# Altium integrated library Analog Devices Data Converters Digital-to-Analog Converters.IntLib: 2231 symbols (part 76 of 181)
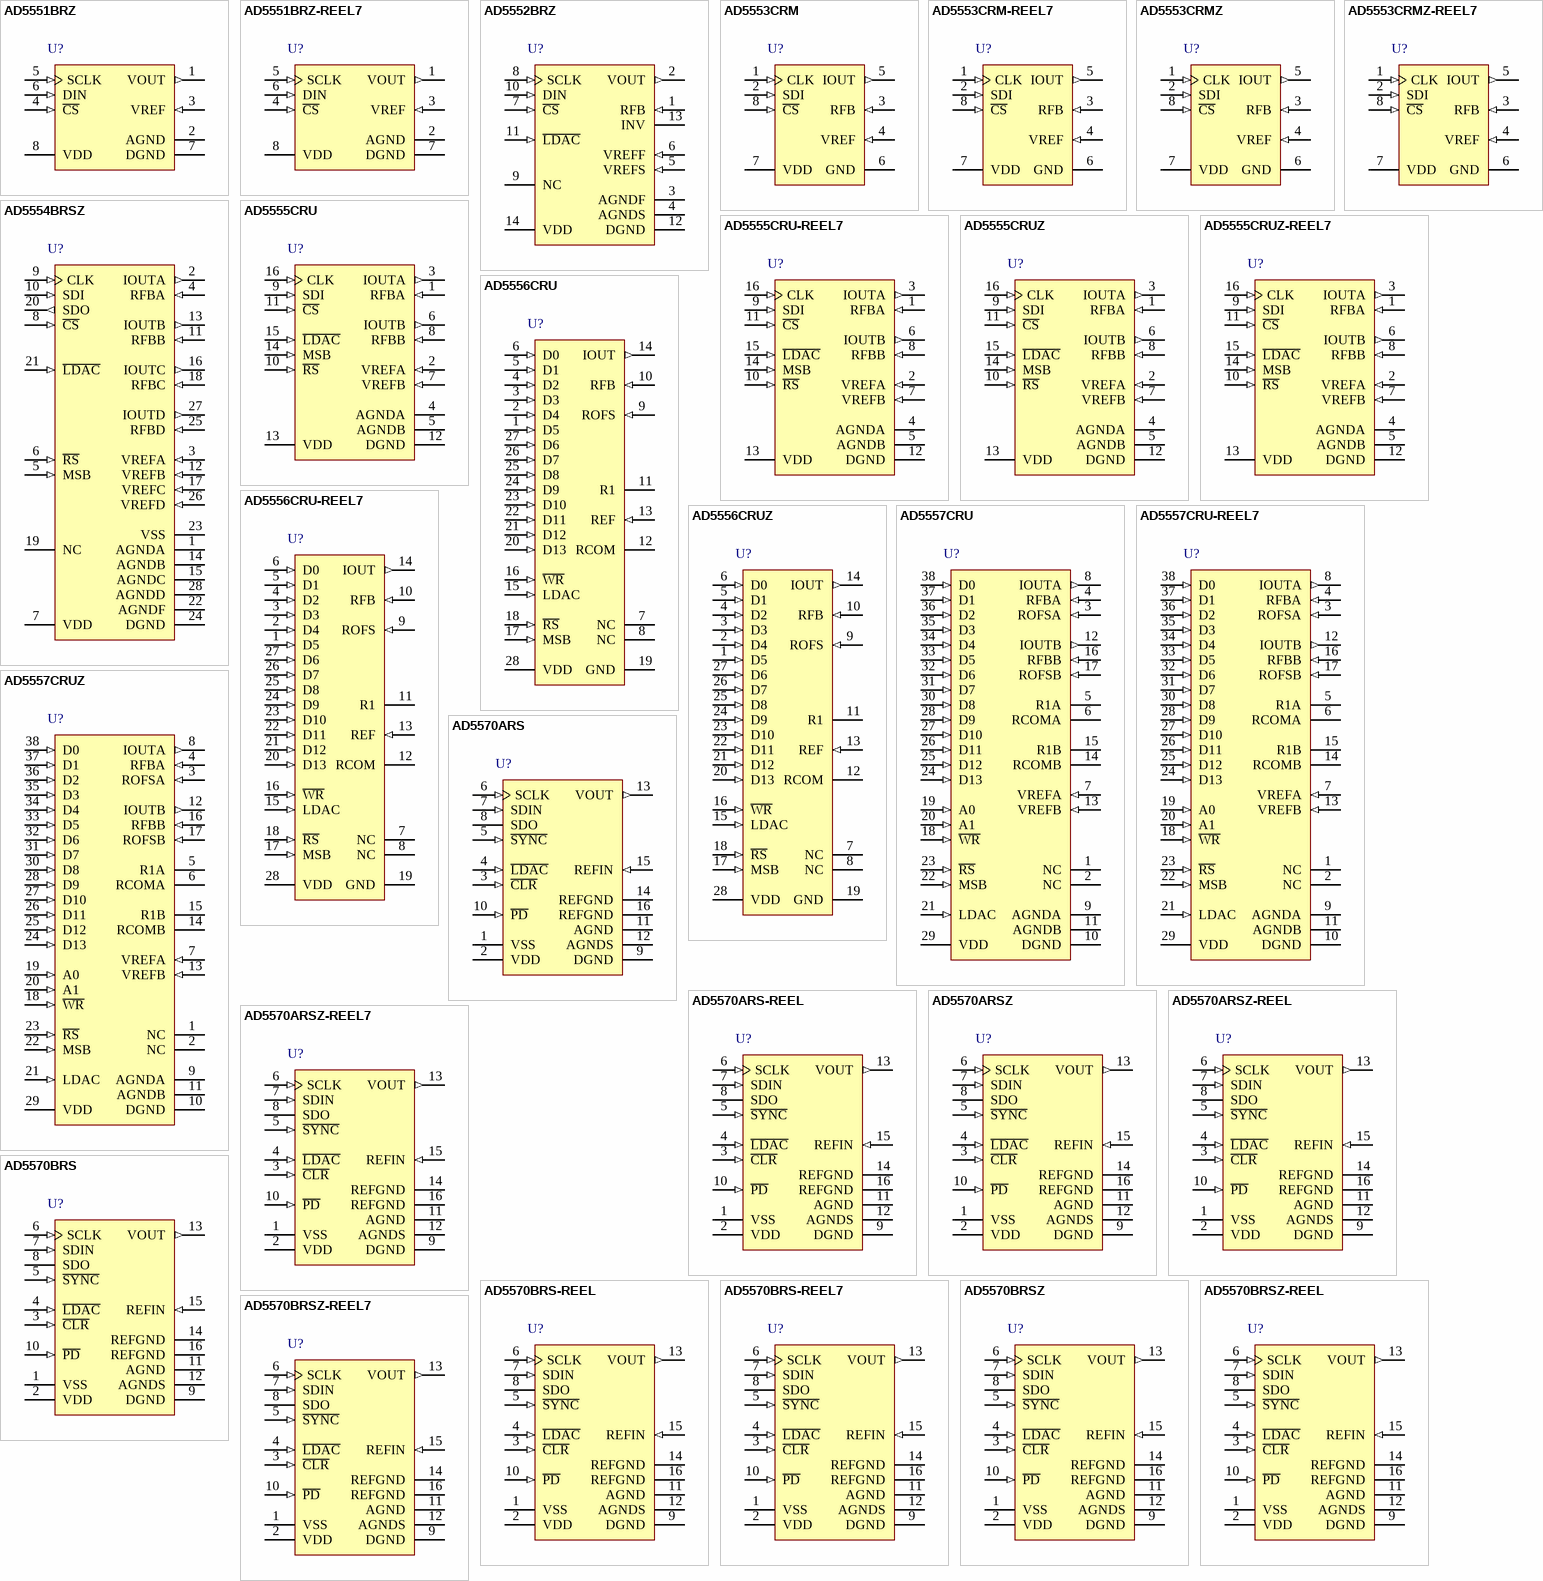
[diagram p189: symbols AD5551BRZ to AD5570BRSZ-REEL7]

## AD5570BRSZ-REEL7
designator U?
Single 16-Bit True Accuracy Digital-to-Analog Converter with Serial Interface, + / -12 V , + / -15 V, -40 to +85 degC, RS-16, Pb-Free, Reel; Generic Part Number: AD5570; Manufacturer: Analog Devices; PartNumber: AD5570BRSZ-REEL7; # DAC Outputs: 1; Max V+: 16.5V; Op Pwr Diss: 150mW; Resolution (Bits): 16; Settling Time: 12µs; Single Supply: No; DatasheetVersion: Rev.C; PackageVersion: Mar-2005; PackageReference: RS-16; PackageDescription: 16-Lead Shrink Small Outline Package [SSOP]; Supplier 1: Digi-Key; Supplier Part Number 1: AD5570BRSZ-REEL7-ND; Supplier 2: Mouser; Supplier Part Number 2: 584-AD5570BRSZ-R7; Packing: Reel; RoHS: Y; Mounting Technology: Surface Mount; Code_JEDEC: MO-150-AC; ComponentLink1Description: Manufacturer URL; ComponentLink1URL: http://www.analog.com/en/index.html; ComponentLink2Description: Datasheet; ComponentLink2URL: http://www.analog.com/static/imported-files/data_sheets/AD5570.pdf; ComponentLink3Description: Package Specification; ComponentLink3URL: http://www.analog.com/static/imported-files/packages/31572257652246RS_16.pdf; ComponentLink4Description: Product URL; ComponentLink4URL: http://www.analog.com/en/digital-to-analog-converters/da-converters/ad5570/products/product.html
footprint RS-16_N (SOP, 16-Leads, Body 6.2x5.3mm, Pitch 0.65mm, IPC Medium Density)
footprint RS-16_L (SOP, 16-Leads, Body 6.2x5.3mm, Pitch 0.65mm, IPC High Density)
footprint RS-16_M (SOP, 16-Leads, Body 6.2x5.3mm, Pitch 0.65mm, IPC Low Density)
pins: 1 VSS (power) "Negative Analog Supply Voltage. -12 V +/- 5% to -15 V +/- 10% for specified performance", 2 VDD (power) "Positive Analog Supply Voltage. 12 V +/- 5% to 15 V +/- 10% for specified performance", 3 ~{CLR} (in) "Level Sensitive, Active Low Input. A falling edge of C\L\R\ resets VOUT to AGND. The contents of the registers are untouched.", 4 ~{LDAC} (in) "Active Low Control Input. Transfers the contents of the input register to the DAC register. L\D\A\C\ can be tied permanently low, enabling the outputs to be updated on the rising edge of S\Y\N\C\.", 5 ~{SYNC} (in) "Active Low Control Input. This is the frame synchronization signal for the data. When S\Y\N\C\ goes low, it powers on the SCLK and SDIN buffers and enables the input shift register. Data is transferred in on the falling (See Datasheet)", 6 SCLK (in) "Serial Clock Input. Data is clocked into the input register on the falling edge of the serial clock input. Data can be transferred at rates of up to 8 MHz.", 7 SDIN (in) "Serial Data Input. Data is clocked into the 16-bit register on the falling edge of the serial clock input.", 8 SDO (oc) "Serial Data Output. Can be used for daisy-chaining a number of devices together or for reading back the data in the shift register for diagnostic purposes. This is an open-drain output; it must be pulled to logic high with (See Datasheet)", 9 DGND (power) "Digital Ground. Ground reference for all digital circuitry.", 10 ~{PD} (in) "Active Low Control Input. Allows the DAC to be put into a power-down state.", 11 AGND (power) "Analog Ground. Ground reference for all analog circuitry.", 12 AGNDS (power) "Analog Ground Sense. This is normally tied to AGND.", 13 VOUT (out) "Analog Output Voltage.", 14 REFGND (power) "Reference Ground. Tie this pin to 0 V.", 15 REFIN (in) "Voltage Reference Input. This is internally buffered before being applied to the DAC. For bipolar +/-10 V output range, REFIN is 5 V.", 16 REFGND (power) "Reference Ground. Tie this pin to 0 V."

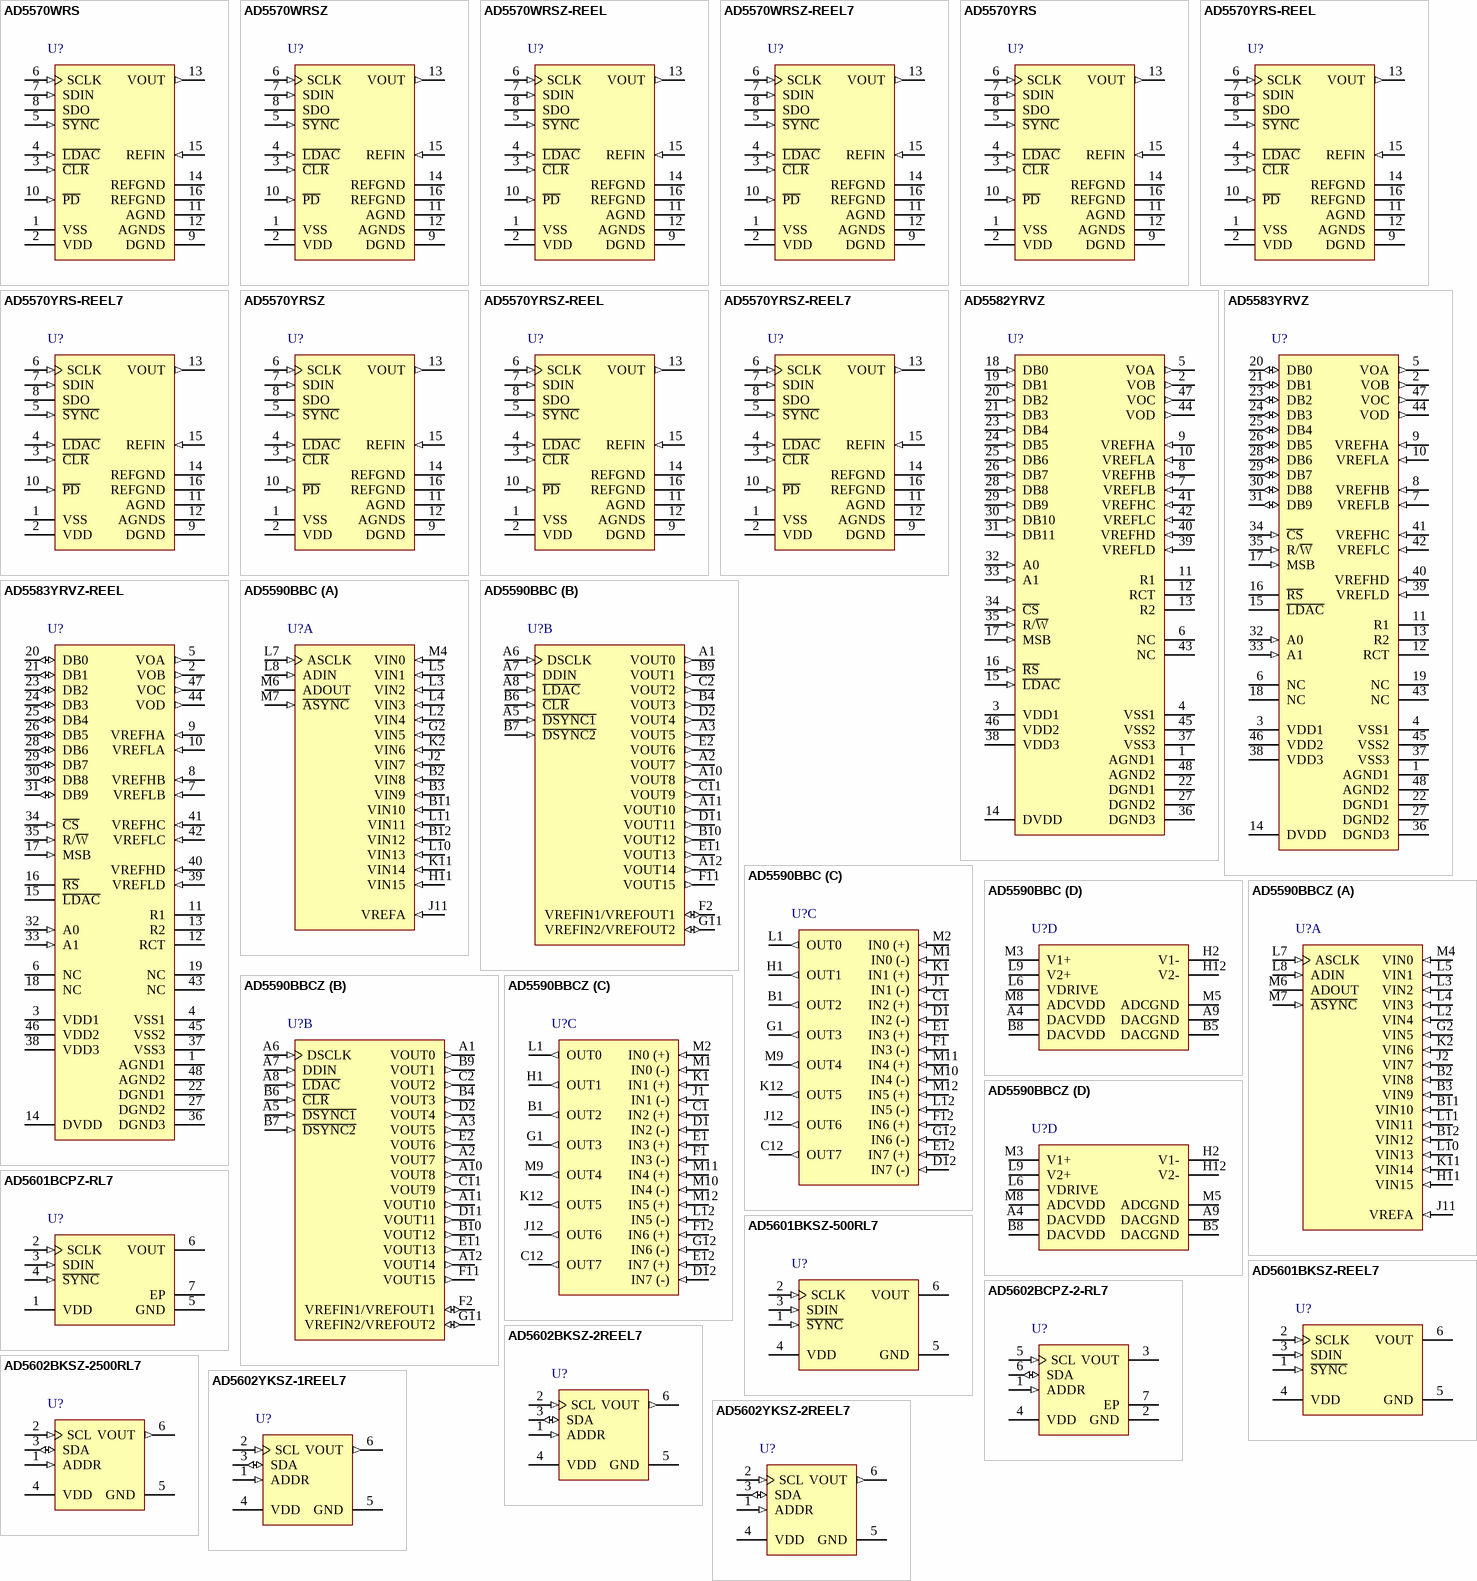
[diagram p42: symbols AD5570WRS to AD5602YKSZ-2REEL7]

## AD5570WRS
designator U?
Single 16-Bit True Accuracy Digital-to-Analog Converter with Serial Interface, + / -12 V , + / -15 V, -40 to +125 degC, RS-16, Tube; Generic Part Number: AD5570; Manufacturer: Analog Devices; PartNumber: AD5570WRS; # DAC Outputs: 1; Max V+: 16.5V; Op Pwr Diss: 150mW; Resolution (Bits): 16; Settling Time: 12µs; Single Supply: No; DatasheetVersion: Rev.C; PackageVersion: Mar-2005; PackageReference: RS-16; PackageDescription: 16-Lead Shrink Small Outline Package [SSOP]; Supplier 1: Digi-Key; Supplier Part Number 1: AD5570WRS-ND; Supplier 2: Mouser; Supplier Part Number 2: 584-AD5570WRS; Packing: Tube; RoHS: N; Mounting Technology: Surface Mount; Code_JEDEC: MO-150-AC; ComponentLink1Description: Manufacturer URL; ComponentLink1URL: http://www.analog.com/en/index.html; ComponentLink2Description: Datasheet; ComponentLink2URL: http://www.analog.com/static/imported-files/data_sheets/AD5570.pdf; ComponentLink3Description: Package Specification; ComponentLink3URL: http://www.analog.com/static/imported-files/packages/31572257652246RS_16.pdf; ComponentLink4Description: Product URL; ComponentLink4URL: http://www.analog.com/en/digital-to-analog-converters/da-converters/ad5570/products/product.html
footprint RS-16_N (SOP, 16-Leads, Body 6.2x5.3mm, Pitch 0.65mm, IPC Medium Density)
footprint RS-16_L (SOP, 16-Leads, Body 6.2x5.3mm, Pitch 0.65mm, IPC High Density)
footprint RS-16_M (SOP, 16-Leads, Body 6.2x5.3mm, Pitch 0.65mm, IPC Low Density)
pins: 1 VSS (power) "Negative Analog Supply Voltage. -12 V +/- 5% to -15 V +/- 10% for specified performance", 2 VDD (power) "Positive Analog Supply Voltage. 12 V +/- 5% to 15 V +/- 10% for specified performance", 3 ~{CLR} (in) "Level Sensitive, Active Low Input. A falling edge of C\L\R\ resets VOUT to AGND. The contents of the registers are untouched.", 4 ~{LDAC} (in) "Active Low Control Input. Transfers the contents of the input register to the DAC register. L\D\A\C\ can be tied permanently low, enabling the outputs to be updated on the rising edge of S\Y\N\C\.", 5 ~{SYNC} (in) "Active Low Control Input. This is the frame synchronization signal for the data. When S\Y\N\C\ goes low, it powers on the SCLK and SDIN buffers and enables the input shift register. Data is transferred in on the falling (See Datasheet)", 6 SCLK (in) "Serial Clock Input. Data is clocked into the input register on the falling edge of the serial clock input. Data can be transferred at rates of up to 8 MHz.", 7 SDIN (in) "Serial Data Input. Data is clocked into the 16-bit register on the falling edge of the serial clock input.", 8 SDO (oc) "Serial Data Output. Can be used for daisy-chaining a number of devices together or for reading back the data in the shift register for diagnostic purposes. This is an open-drain output; it must be pulled to logic high with (See Datasheet)", 9 DGND (power) "Digital Ground. Ground reference for all digital circuitry.", 10 ~{PD} (in) "Active Low Control Input. Allows the DAC to be put into a power-down state.", 11 AGND (power) "Analog Ground. Ground reference for all analog circuitry.", 12 AGNDS (power) "Analog Ground Sense. This is normally tied to AGND.", 13 VOUT (out) "Analog Output Voltage.", 14 REFGND (power) "Reference Ground. Tie this pin to 0 V.", 15 REFIN (in) "Voltage Reference Input. This is internally buffered before being applied to the DAC. For bipolar +/-10 V output range, REFIN is 5 V.", 16 REFGND (power) "Reference Ground. Tie this pin to 0 V."

## AD5570WRSZ
designator U?
Single 16-Bit True Accuracy Digital-to-Analog Converter with Serial Interface, + / -12 V , + / -15 V, -40 to +125 degC, RS-16, Pb-Free, Tube; Generic Part Number: AD5570; Manufacturer: Analog Devices; PartNumber: AD5570WRSZ; # DAC Outputs: 1; Max V+: 16.5V; Op Pwr Diss: 150mW; Resolution (Bits): 16; Settling Time: 12µs; Single Supply: No; DatasheetVersion: Rev.C; PackageVersion: Mar-2005; PackageReference: RS-16; PackageDescription: 16-Lead Shrink Small Outline Package [SSOP]; Supplier 1: Digi-Key; Supplier Part Number 1: AD5570WRSZ-ND; Supplier 2: Farnell; Supplier Part Number 2: 1581925; Supplier 3: Newark; Supplier Part Number 3: 15P0696; Supplier 4: Mouser; Supplier Part Number 4: 584-AD5570WRSZ; Packing: Tube; RoHS: Y; Mounting Technology: Surface Mount; Code_JEDEC: MO-150-AC; ComponentLink1Description: Manufacturer URL; ComponentLink1URL: http://www.analog.com/en/index.html; ComponentLink2Description: Datasheet; ComponentLink2URL: http://www.analog.com/static/imported-files/data_sheets/AD5570.pdf; ComponentLink3Description: Package Specification; ComponentLink3URL: http://www.analog.com/static/imported-files/packages/31572257652246RS_16.pdf; ComponentLink4Description: Product URL; ComponentLink4URL: http://www.analog.com/en/digital-to-analog-converters/da-converters/ad5570/products/product.html
footprint RS-16_N (SOP, 16-Leads, Body 6.2x5.3mm, Pitch 0.65mm, IPC Medium Density)
footprint RS-16_L (SOP, 16-Leads, Body 6.2x5.3mm, Pitch 0.65mm, IPC High Density)
footprint RS-16_M (SOP, 16-Leads, Body 6.2x5.3mm, Pitch 0.65mm, IPC Low Density)
pins: 1 VSS (power) "Negative Analog Supply Voltage. -12 V +/- 5% to -15 V +/- 10% for specified performance", 2 VDD (power) "Positive Analog Supply Voltage. 12 V +/- 5% to 15 V +/- 10% for specified performance", 3 ~{CLR} (in) "Level Sensitive, Active Low Input. A falling edge of C\L\R\ resets VOUT to AGND. The contents of the registers are untouched.", 4 ~{LDAC} (in) "Active Low Control Input. Transfers the contents of the input register to the DAC register. L\D\A\C\ can be tied permanently low, enabling the outputs to be updated on the rising edge of S\Y\N\C\.", 5 ~{SYNC} (in) "Active Low Control Input. This is the frame synchronization signal for the data. When S\Y\N\C\ goes low, it powers on the SCLK and SDIN buffers and enables the input shift register. Data is transferred in on the falling (See Datasheet)", 6 SCLK (in) "Serial Clock Input. Data is clocked into the input register on the falling edge of the serial clock input. Data can be transferred at rates of up to 8 MHz.", 7 SDIN (in) "Serial Data Input. Data is clocked into the 16-bit register on the falling edge of the serial clock input.", 8 SDO (oc) "Serial Data Output. Can be used for daisy-chaining a number of devices together or for reading back the data in the shift register for diagnostic purposes. This is an open-drain output; it must be pulled to logic high with (See Datasheet)", 9 DGND (power) "Digital Ground. Ground reference for all digital circuitry.", 10 ~{PD} (in) "Active Low Control Input. Allows the DAC to be put into a power-down state.", 11 AGND (power) "Analog Ground. Ground reference for all analog circuitry.", 12 AGNDS (power) "Analog Ground Sense. This is normally tied to AGND.", 13 VOUT (out) "Analog Output Voltage.", 14 REFGND (power) "Reference Ground. Tie this pin to 0 V.", 15 REFIN (in) "Voltage Reference Input. This is internally buffered before being applied to the DAC. For bipolar +/-10 V output range, REFIN is 5 V.", 16 REFGND (power) "Reference Ground. Tie this pin to 0 V."

## AD5570WRSZ-REEL
designator U?
Single 16-Bit True Accuracy Digital-to-Analog Converter with Serial Interface, + / -12 V , + / -15 V, -40 to +125 degC, RS-16, Pb-Free, Reel; Generic Part Number: AD5570; Manufacturer: Analog Devices; PartNumber: AD5570WRSZ-REEL; # DAC Outputs: 1; Max V+: 16.5V; Op Pwr Diss: 150mW; Resolution (Bits): 16; Settling Time: 12µs; Single Supply: No; DatasheetVersion: Rev.C; PackageVersion: Mar-2005; PackageReference: RS-16; PackageDescription: 16-Lead Shrink Small Outline Package [SSOP]; Supplier 1: Digi-Key; Supplier Part Number 1: AD5570WRSZ-REEL-ND; Supplier 2: Mouser; Supplier Part Number 2: 584-AD5570WRSZ-R; Packing: Reel; RoHS: Y; Mounting Technology: Surface Mount; Code_JEDEC: MO-150-AC; ComponentLink1Description: Manufacturer URL; ComponentLink1URL: http://www.analog.com/en/index.html; ComponentLink2Description: Datasheet; ComponentLink2URL: http://www.analog.com/static/imported-files/data_sheets/AD5570.pdf; ComponentLink3Description: Package Specification; ComponentLink3URL: http://www.analog.com/static/imported-files/packages/31572257652246RS_16.pdf; ComponentLink4Description: Product URL; ComponentLink4URL: http://www.analog.com/en/digital-to-analog-converters/da-converters/ad5570/products/product.html
footprint RS-16_N (SOP, 16-Leads, Body 6.2x5.3mm, Pitch 0.65mm, IPC Medium Density)
footprint RS-16_L (SOP, 16-Leads, Body 6.2x5.3mm, Pitch 0.65mm, IPC High Density)
footprint RS-16_M (SOP, 16-Leads, Body 6.2x5.3mm, Pitch 0.65mm, IPC Low Density)
pins: 1 VSS (power) "Negative Analog Supply Voltage. -12 V +/- 5% to -15 V +/- 10% for specified performance", 2 VDD (power) "Positive Analog Supply Voltage. 12 V +/- 5% to 15 V +/- 10% for specified performance", 3 ~{CLR} (in) "Level Sensitive, Active Low Input. A falling edge of C\L\R\ resets VOUT to AGND. The contents of the registers are untouched.", 4 ~{LDAC} (in) "Active Low Control Input. Transfers the contents of the input register to the DAC register. L\D\A\C\ can be tied permanently low, enabling the outputs to be updated on the rising edge of S\Y\N\C\.", 5 ~{SYNC} (in) "Active Low Control Input. This is the frame synchronization signal for the data. When S\Y\N\C\ goes low, it powers on the SCLK and SDIN buffers and enables the input shift register. Data is transferred in on the falling (See Datasheet)", 6 SCLK (in) "Serial Clock Input. Data is clocked into the input register on the falling edge of the serial clock input. Data can be transferred at rates of up to 8 MHz.", 7 SDIN (in) "Serial Data Input. Data is clocked into the 16-bit register on the falling edge of the serial clock input.", 8 SDO (oc) "Serial Data Output. Can be used for daisy-chaining a number of devices together or for reading back the data in the shift register for diagnostic purposes. This is an open-drain output; it must be pulled to logic high with (See Datasheet)", 9 DGND (power) "Digital Ground. Ground reference for all digital circuitry.", 10 ~{PD} (in) "Active Low Control Input. Allows the DAC to be put into a power-down state.", 11 AGND (power) "Analog Ground. Ground reference for all analog circuitry.", 12 AGNDS (power) "Analog Ground Sense. This is normally tied to AGND.", 13 VOUT (out) "Analog Output Voltage.", 14 REFGND (power) "Reference Ground. Tie this pin to 0 V.", 15 REFIN (in) "Voltage Reference Input. This is internally buffered before being applied to the DAC. For bipolar +/-10 V output range, REFIN is 5 V.", 16 REFGND (power) "Reference Ground. Tie this pin to 0 V."

## AD5570WRSZ-REEL7
designator U?
Single 16-Bit True Accuracy Digital-to-Analog Converter with Serial Interface, + / -12 V , + / -15 V, -40 to +125 degC, RS-16, Pb-Free, Reel; Generic Part Number: AD5570; Manufacturer: Analog Devices; PartNumber: AD5570WRSZ-REEL7; # DAC Outputs: 1; Max V+: 16.5V; Op Pwr Diss: 150mW; Resolution (Bits): 16; Settling Time: 12µs; Single Supply: No; DatasheetVersion: Rev.C; PackageVersion: Mar-2005; PackageReference: RS-16; PackageDescription: 16-Lead Shrink Small Outline Package [SSOP]; Supplier 1: Digi-Key; Supplier Part Number 1: AD5570WRSZ-REEL7-ND; Supplier 2: Mouser; Supplier Part Number 2: 584-AD5570WRSZ-R7; Packing: Reel; RoHS: Y; Mounting Technology: Surface Mount; Code_JEDEC: MO-150-AC; ComponentLink1Description: Manufacturer URL; ComponentLink1URL: http://www.analog.com/en/index.html; ComponentLink2Description: Datasheet; ComponentLink2URL: http://www.analog.com/static/imported-files/data_sheets/AD5570.pdf; ComponentLink3Description: Package Specification; ComponentLink3URL: http://www.analog.com/static/imported-files/packages/31572257652246RS_16.pdf; ComponentLink4Description: Product URL; ComponentLink4URL: http://www.analog.com/en/digital-to-analog-converters/da-converters/ad5570/products/product.html
footprint RS-16_N (SOP, 16-Leads, Body 6.2x5.3mm, Pitch 0.65mm, IPC Medium Density)
footprint RS-16_L (SOP, 16-Leads, Body 6.2x5.3mm, Pitch 0.65mm, IPC High Density)
footprint RS-16_M (SOP, 16-Leads, Body 6.2x5.3mm, Pitch 0.65mm, IPC Low Density)
pins: 1 VSS (power) "Negative Analog Supply Voltage. -12 V +/- 5% to -15 V +/- 10% for specified performance", 2 VDD (power) "Positive Analog Supply Voltage. 12 V +/- 5% to 15 V +/- 10% for specified performance", 3 ~{CLR} (in) "Level Sensitive, Active Low Input. A falling edge of C\L\R\ resets VOUT to AGND. The contents of the registers are untouched.", 4 ~{LDAC} (in) "Active Low Control Input. Transfers the contents of the input register to the DAC register. L\D\A\C\ can be tied permanently low, enabling the outputs to be updated on the rising edge of S\Y\N\C\.", 5 ~{SYNC} (in) "Active Low Control Input. This is the frame synchronization signal for the data. When S\Y\N\C\ goes low, it powers on the SCLK and SDIN buffers and enables the input shift register. Data is transferred in on the falling (See Datasheet)", 6 SCLK (in) "Serial Clock Input. Data is clocked into the input register on the falling edge of the serial clock input. Data can be transferred at rates of up to 8 MHz.", 7 SDIN (in) "Serial Data Input. Data is clocked into the 16-bit register on the falling edge of the serial clock input.", 8 SDO (oc) "Serial Data Output. Can be used for daisy-chaining a number of devices together or for reading back the data in the shift register for diagnostic purposes. This is an open-drain output; it must be pulled to logic high with (See Datasheet)", 9 DGND (power) "Digital Ground. Ground reference for all digital circuitry.", 10 ~{PD} (in) "Active Low Control Input. Allows the DAC to be put into a power-down state.", 11 AGND (power) "Analog Ground. Ground reference for all analog circuitry.", 12 AGNDS (power) "Analog Ground Sense. This is normally tied to AGND.", 13 VOUT (out) "Analog Output Voltage.", 14 REFGND (power) "Reference Ground. Tie this pin to 0 V.", 15 REFIN (in) "Voltage Reference Input. This is internally buffered before being applied to the DAC. For bipolar +/-10 V output range, REFIN is 5 V.", 16 REFGND (power) "Reference Ground. Tie this pin to 0 V."

## AD5570YRS
designator U?
Single 16-Bit True Accuracy Digital-to-Analog Converter with Serial Interface, + / -12 V , + / -15 V, -40 to +125 degC, RS-16, Tube; Generic Part Number: AD5570; Manufacturer: Analog Devices; PartNumber: AD5570YRS; # DAC Outputs: 1; Max V+: 16.5V; Op Pwr Diss: 150mW; Resolution (Bits): 16; Settling Time: 12µs; Single Supply: No; DatasheetVersion: Rev.C; PackageVersion: Mar-2005; PackageReference: RS-16; PackageDescription: 16-Lead Shrink Small Outline Package [SSOP]; Supplier 1: Digi-Key; Supplier Part Number 1: AD5570YRS-ND; Supplier 2: Mouser; Supplier Part Number 2: 584-AD5570YRS; Packing: Tube; RoHS: N; Mounting Technology: Surface Mount; Code_JEDEC: MO-150-AC; ComponentLink1Description: Manufacturer URL; ComponentLink1URL: http://www.analog.com/en/index.html; ComponentLink2Description: Datasheet; ComponentLink2URL: http://www.analog.com/static/imported-files/data_sheets/AD5570.pdf; ComponentLink3Description: Package Specification; ComponentLink3URL: http://www.analog.com/static/imported-files/packages/31572257652246RS_16.pdf; ComponentLink4Description: Product URL; ComponentLink4URL: http://www.analog.com/en/digital-to-analog-converters/da-converters/ad5570/products/product.html
footprint RS-16_N (SOP, 16-Leads, Body 6.2x5.3mm, Pitch 0.65mm, IPC Medium Density)
footprint RS-16_L (SOP, 16-Leads, Body 6.2x5.3mm, Pitch 0.65mm, IPC High Density)
footprint RS-16_M (SOP, 16-Leads, Body 6.2x5.3mm, Pitch 0.65mm, IPC Low Density)
pins: 1 VSS (power) "Negative Analog Supply Voltage. -12 V +/- 5% to -15 V +/- 10% for specified performance", 2 VDD (power) "Positive Analog Supply Voltage. 12 V +/- 5% to 15 V +/- 10% for specified performance", 3 ~{CLR} (in) "Level Sensitive, Active Low Input. A falling edge of C\L\R\ resets VOUT to AGND. The contents of the registers are untouched.", 4 ~{LDAC} (in) "Active Low Control Input. Transfers the contents of the input register to the DAC register. L\D\A\C\ can be tied permanently low, enabling the outputs to be updated on the rising edge of S\Y\N\C\.", 5 ~{SYNC} (in) "Active Low Control Input. This is the frame synchronization signal for the data. When S\Y\N\C\ goes low, it powers on the SCLK and SDIN buffers and enables the input shift register. Data is transferred in on the falling (See Datasheet)", 6 SCLK (in) "Serial Clock Input. Data is clocked into the input register on the falling edge of the serial clock input. Data can be transferred at rates of up to 8 MHz.", 7 SDIN (in) "Serial Data Input. Data is clocked into the 16-bit register on the falling edge of the serial clock input.", 8 SDO (oc) "Serial Data Output. Can be used for daisy-chaining a number of devices together or for reading back the data in the shift register for diagnostic purposes. This is an open-drain output; it must be pulled to logic high with (See Datasheet)", 9 DGND (power) "Digital Ground. Ground reference for all digital circuitry.", 10 ~{PD} (in) "Active Low Control Input. Allows the DAC to be put into a power-down state.", 11 AGND (power) "Analog Ground. Ground reference for all analog circuitry.", 12 AGNDS (power) "Analog Ground Sense. This is normally tied to AGND.", 13 VOUT (out) "Analog Output Voltage.", 14 REFGND (power) "Reference Ground. Tie this pin to 0 V.", 15 REFIN (in) "Voltage Reference Input. This is internally buffered before being applied to the DAC. For bipolar +/-10 V output range, REFIN is 5 V.", 16 REFGND (power) "Reference Ground. Tie this pin to 0 V."

## AD5570YRS-REEL
designator U?
Single 16-Bit True Accuracy Digital-to-Analog Converter with Serial Interface, + / -12 V , + / -15 V, -40 to +125 degC, RS-16, Reel; Generic Part Number: AD5570; Manufacturer: Analog Devices; PartNumber: AD5570YRS-REEL; # DAC Outputs: 1; Max V+: 16.5V; Op Pwr Diss: 150mW; Resolution (Bits): 16; Settling Time: 12µs; Single Supply: No; DatasheetVersion: Rev.C; PackageVersion: Mar-2005; PackageReference: RS-16; PackageDescription: 16-Lead Shrink Small Outline Package [SSOP]; Supplier 1: Digi-Key; Supplier Part Number 1: AD5570YRS-REEL-ND; Supplier 2: Mouser; Supplier Part Number 2: 584-AD5570YRS-R; Packing: Reel; RoHS: N; Mounting Technology: Surface Mount; Code_JEDEC: MO-150-AC; ComponentLink1Description: Manufacturer URL; ComponentLink1URL: http://www.analog.com/en/index.html; ComponentLink2Description: Datasheet; ComponentLink2URL: http://www.analog.com/static/imported-files/data_sheets/AD5570.pdf; ComponentLink3Description: Package Specification; ComponentLink3URL: http://www.analog.com/static/imported-files/packages/31572257652246RS_16.pdf; ComponentLink4Description: Product URL; ComponentLink4URL: http://www.analog.com/en/digital-to-analog-converters/da-converters/ad5570/products/product.html
footprint RS-16_N (SOP, 16-Leads, Body 6.2x5.3mm, Pitch 0.65mm, IPC Medium Density)
footprint RS-16_L (SOP, 16-Leads, Body 6.2x5.3mm, Pitch 0.65mm, IPC High Density)
footprint RS-16_M (SOP, 16-Leads, Body 6.2x5.3mm, Pitch 0.65mm, IPC Low Density)
pins: 1 VSS (power) "Negative Analog Supply Voltage. -12 V +/- 5% to -15 V +/- 10% for specified performance", 2 VDD (power) "Positive Analog Supply Voltage. 12 V +/- 5% to 15 V +/- 10% for specified performance", 3 ~{CLR} (in) "Level Sensitive, Active Low Input. A falling edge of C\L\R\ resets VOUT to AGND. The contents of the registers are untouched.", 4 ~{LDAC} (in) "Active Low Control Input. Transfers the contents of the input register to the DAC register. L\D\A\C\ can be tied permanently low, enabling the outputs to be updated on the rising edge of S\Y\N\C\.", 5 ~{SYNC} (in) "Active Low Control Input. This is the frame synchronization signal for the data. When S\Y\N\C\ goes low, it powers on the SCLK and SDIN buffers and enables the input shift register. Data is transferred in on the falling (See Datasheet)", 6 SCLK (in) "Serial Clock Input. Data is clocked into the input register on the falling edge of the serial clock input. Data can be transferred at rates of up to 8 MHz.", 7 SDIN (in) "Serial Data Input. Data is clocked into the 16-bit register on the falling edge of the serial clock input.", 8 SDO (oc) "Serial Data Output. Can be used for daisy-chaining a number of devices together or for reading back the data in the shift register for diagnostic purposes. This is an open-drain output; it must be pulled to logic high with (See Datasheet)", 9 DGND (power) "Digital Ground. Ground reference for all digital circuitry.", 10 ~{PD} (in) "Active Low Control Input. Allows the DAC to be put into a power-down state.", 11 AGND (power) "Analog Ground. Ground reference for all analog circuitry.", 12 AGNDS (power) "Analog Ground Sense. This is normally tied to AGND.", 13 VOUT (out) "Analog Output Voltage.", 14 REFGND (power) "Reference Ground. Tie this pin to 0 V.", 15 REFIN (in) "Voltage Reference Input. This is internally buffered before being applied to the DAC. For bipolar +/-10 V output range, REFIN is 5 V.", 16 REFGND (power) "Reference Ground. Tie this pin to 0 V."

## AD5570YRS-REEL7
designator U?
Single 16-Bit True Accuracy Digital-to-Analog Converter with Serial Interface, + / -12 V , + / -15 V, -40 to +125 degC, RS-16, Reel; Generic Part Number: AD5570; Manufacturer: Analog Devices; PartNumber: AD5570YRS-REEL7; # DAC Outputs: 1; Max V+: 16.5V; Op Pwr Diss: 150mW; Resolution (Bits): 16; Settling Time: 12µs; Single Supply: No; DatasheetVersion: Rev.C; PackageVersion: Mar-2005; PackageReference: RS-16; PackageDescription: 16-Lead Shrink Small Outline Package [SSOP]; Supplier 1: Digi-Key; Supplier Part Number 1: AD5570YRS-REEL7-ND; Supplier 2: Mouser; Supplier Part Number 2: 584-AD5570YRS-R7; Packing: Reel; RoHS: N; Mounting Technology: Surface Mount; Code_JEDEC: MO-150-AC; ComponentLink1Description: Manufacturer URL; ComponentLink1URL: http://www.analog.com/en/index.html; ComponentLink2Description: Datasheet; ComponentLink2URL: http://www.analog.com/static/imported-files/data_sheets/AD5570.pdf; ComponentLink3Description: Package Specification; ComponentLink3URL: http://www.analog.com/static/imported-files/packages/31572257652246RS_16.pdf; ComponentLink4Description: Product URL; ComponentLink4URL: http://www.analog.com/en/digital-to-analog-converters/da-converters/ad5570/products/product.html
footprint RS-16_N (SOP, 16-Leads, Body 6.2x5.3mm, Pitch 0.65mm, IPC Medium Density)
footprint RS-16_L (SOP, 16-Leads, Body 6.2x5.3mm, Pitch 0.65mm, IPC High Density)
footprint RS-16_M (SOP, 16-Leads, Body 6.2x5.3mm, Pitch 0.65mm, IPC Low Density)
pins: 1 VSS (power) "Negative Analog Supply Voltage. -12 V +/- 5% to -15 V +/- 10% for specified performance", 2 VDD (power) "Positive Analog Supply Voltage. 12 V +/- 5% to 15 V +/- 10% for specified performance", 3 ~{CLR} (in) "Level Sensitive, Active Low Input. A falling edge of C\L\R\ resets VOUT to AGND. The contents of the registers are untouched.", 4 ~{LDAC} (in) "Active Low Control Input. Transfers the contents of the input register to the DAC register. L\D\A\C\ can be tied permanently low, enabling the outputs to be updated on the rising edge of S\Y\N\C\.", 5 ~{SYNC} (in) "Active Low Control Input. This is the frame synchronization signal for the data. When S\Y\N\C\ goes low, it powers on the SCLK and SDIN buffers and enables the input shift register. Data is transferred in on the falling (See Datasheet)", 6 SCLK (in) "Serial Clock Input. Data is clocked into the input register on the falling edge of the serial clock input. Data can be transferred at rates of up to 8 MHz.", 7 SDIN (in) "Serial Data Input. Data is clocked into the 16-bit register on the falling edge of the serial clock input.", 8 SDO (oc) "Serial Data Output. Can be used for daisy-chaining a number of devices together or for reading back the data in the shift register for diagnostic purposes. This is an open-drain output; it must be pulled to logic high with (See Datasheet)", 9 DGND (power) "Digital Ground. Ground reference for all digital circuitry.", 10 ~{PD} (in) "Active Low Control Input. Allows the DAC to be put into a power-down state.", 11 AGND (power) "Analog Ground. Ground reference for all analog circuitry.", 12 AGNDS (power) "Analog Ground Sense. This is normally tied to AGND.", 13 VOUT (out) "Analog Output Voltage.", 14 REFGND (power) "Reference Ground. Tie this pin to 0 V.", 15 REFIN (in) "Voltage Reference Input. This is internally buffered before being applied to the DAC. For bipolar +/-10 V output range, REFIN is 5 V.", 16 REFGND (power) "Reference Ground. Tie this pin to 0 V."

## AD5570YRSZ
designator U?
Single 16-Bit True Accuracy Digital-to-Analog Converter with Serial Interface, + / -12 V , + / -15 V, -40 to +125 degC, RS-16, Pb-Free, Tube; Generic Part Number: AD5570; Manufacturer: Analog Devices; PartNumber: AD5570YRSZ; # DAC Outputs: 1; Max V+: 16.5V; Op Pwr Diss: 150mW; Resolution (Bits): 16; Settling Time: 12µs; Single Supply: No; DatasheetVersion: Rev.C; PackageVersion: Mar-2005; PackageReference: RS-16; PackageDescription: 16-Lead Shrink Small Outline Package [SSOP]; Supplier 1: Digi-Key; Supplier Part Number 1: AD5570YRSZ-ND; Supplier 2: Mouser; Supplier Part Number 2: 584-AD5570YRSZ; Packing: Tube; RoHS: Y; Mounting Technology: Surface Mount; Code_JEDEC: MO-150-AC; ComponentLink1Description: Manufacturer URL; ComponentLink1URL: http://www.analog.com/en/index.html; ComponentLink2Description: Datasheet; ComponentLink2URL: http://www.analog.com/static/imported-files/data_sheets/AD5570.pdf; ComponentLink3Description: Package Specification; ComponentLink3URL: http://www.analog.com/static/imported-files/packages/31572257652246RS_16.pdf; ComponentLink4Description: Product URL; ComponentLink4URL: http://www.analog.com/en/digital-to-analog-converters/da-converters/ad5570/products/product.html
footprint RS-16_N (SOP, 16-Leads, Body 6.2x5.3mm, Pitch 0.65mm, IPC Medium Density)
footprint RS-16_L (SOP, 16-Leads, Body 6.2x5.3mm, Pitch 0.65mm, IPC High Density)
footprint RS-16_M (SOP, 16-Leads, Body 6.2x5.3mm, Pitch 0.65mm, IPC Low Density)
pins: 1 VSS (power) "Negative Analog Supply Voltage. -12 V +/- 5% to -15 V +/- 10% for specified performance", 2 VDD (power) "Positive Analog Supply Voltage. 12 V +/- 5% to 15 V +/- 10% for specified performance", 3 ~{CLR} (in) "Level Sensitive, Active Low Input. A falling edge of C\L\R\ resets VOUT to AGND. The contents of the registers are untouched.", 4 ~{LDAC} (in) "Active Low Control Input. Transfers the contents of the input register to the DAC register. L\D\A\C\ can be tied permanently low, enabling the outputs to be updated on the rising edge of S\Y\N\C\.", 5 ~{SYNC} (in) "Active Low Control Input. This is the frame synchronization signal for the data. When S\Y\N\C\ goes low, it powers on the SCLK and SDIN buffers and enables the input shift register. Data is transferred in on the falling (See Datasheet)", 6 SCLK (in) "Serial Clock Input. Data is clocked into the input register on the falling edge of the serial clock input. Data can be transferred at rates of up to 8 MHz.", 7 SDIN (in) "Serial Data Input. Data is clocked into the 16-bit register on the falling edge of the serial clock input.", 8 SDO (oc) "Serial Data Output. Can be used for daisy-chaining a number of devices together or for reading back the data in the shift register for diagnostic purposes. This is an open-drain output; it must be pulled to logic high with (See Datasheet)", 9 DGND (power) "Digital Ground. Ground reference for all digital circuitry.", 10 ~{PD} (in) "Active Low Control Input. Allows the DAC to be put into a power-down state.", 11 AGND (power) "Analog Ground. Ground reference for all analog circuitry.", 12 AGNDS (power) "Analog Ground Sense. This is normally tied to AGND.", 13 VOUT (out) "Analog Output Voltage.", 14 REFGND (power) "Reference Ground. Tie this pin to 0 V.", 15 REFIN (in) "Voltage Reference Input. This is internally buffered before being applied to the DAC. For bipolar +/-10 V output range, REFIN is 5 V.", 16 REFGND (power) "Reference Ground. Tie this pin to 0 V."

## AD5570YRSZ-REEL
designator U?
Single 16-Bit True Accuracy Digital-to-Analog Converter with Serial Interface, + / -12 V , + / -15 V, -40 to +125 degC, RS-16, Pb-Free, Reel; Generic Part Number: AD5570; Manufacturer: Analog Devices; PartNumber: AD5570YRSZ-REEL; # DAC Outputs: 1; Max V+: 16.5V; Op Pwr Diss: 150mW; Resolution (Bits): 16; Settling Time: 12µs; Single Supply: No; DatasheetVersion: Rev.C; PackageVersion: Mar-2005; PackageReference: RS-16; PackageDescription: 16-Lead Shrink Small Outline Package [SSOP]; Supplier 1: Digi-Key; Supplier Part Number 1: AD5570YRSZ-REEL-ND; Supplier 2: Mouser; Supplier Part Number 2: 584-AD5570YRSZ-R; Packing: Reel; RoHS: Y; Mounting Technology: Surface Mount; Code_JEDEC: MO-150-AC; ComponentLink1Description: Manufacturer URL; ComponentLink1URL: http://www.analog.com/en/index.html; ComponentLink2Description: Datasheet; ComponentLink2URL: http://www.analog.com/static/imported-files/data_sheets/AD5570.pdf; ComponentLink3Description: Package Specification; ComponentLink3URL: http://www.analog.com/static/imported-files/packages/31572257652246RS_16.pdf; ComponentLink4Description: Product URL; ComponentLink4URL: http://www.analog.com/en/digital-to-analog-converters/da-converters/ad5570/products/product.html
footprint RS-16_N (SOP, 16-Leads, Body 6.2x5.3mm, Pitch 0.65mm, IPC Medium Density)
footprint RS-16_L (SOP, 16-Leads, Body 6.2x5.3mm, Pitch 0.65mm, IPC High Density)
footprint RS-16_M (SOP, 16-Leads, Body 6.2x5.3mm, Pitch 0.65mm, IPC Low Density)
pins: 1 VSS (power) "Negative Analog Supply Voltage. -12 V +/- 5% to -15 V +/- 10% for specified performance", 2 VDD (power) "Positive Analog Supply Voltage. 12 V +/- 5% to 15 V +/- 10% for specified performance", 3 ~{CLR} (in) "Level Sensitive, Active Low Input. A falling edge of C\L\R\ resets VOUT to AGND. The contents of the registers are untouched.", 4 ~{LDAC} (in) "Active Low Control Input. Transfers the contents of the input register to the DAC register. L\D\A\C\ can be tied permanently low, enabling the outputs to be updated on the rising edge of S\Y\N\C\.", 5 ~{SYNC} (in) "Active Low Control Input. This is the frame synchronization signal for the data. When S\Y\N\C\ goes low, it powers on the SCLK and SDIN buffers and enables the input shift register. Data is transferred in on the falling (See Datasheet)", 6 SCLK (in) "Serial Clock Input. Data is clocked into the input register on the falling edge of the serial clock input. Data can be transferred at rates of up to 8 MHz.", 7 SDIN (in) "Serial Data Input. Data is clocked into the 16-bit register on the falling edge of the serial clock input.", 8 SDO (oc) "Serial Data Output. Can be used for daisy-chaining a number of devices together or for reading back the data in the shift register for diagnostic purposes. This is an open-drain output; it must be pulled to logic high with (See Datasheet)", 9 DGND (power) "Digital Ground. Ground reference for all digital circuitry.", 10 ~{PD} (in) "Active Low Control Input. Allows the DAC to be put into a power-down state.", 11 AGND (power) "Analog Ground. Ground reference for all analog circuitry.", 12 AGNDS (power) "Analog Ground Sense. This is normally tied to AGND.", 13 VOUT (out) "Analog Output Voltage.", 14 REFGND (power) "Reference Ground. Tie this pin to 0 V.", 15 REFIN (in) "Voltage Reference Input. This is internally buffered before being applied to the DAC. For bipolar +/-10 V output range, REFIN is 5 V.", 16 REFGND (power) "Reference Ground. Tie this pin to 0 V."

## AD5570YRSZ-REEL7
designator U?
Single 16-Bit True Accuracy Digital-to-Analog Converter with Serial Interface, + / -12 V , + / -15 V, -40 to +125 degC, RS-16, Pb-Free, Reel; Generic Part Number: AD5570; Manufacturer: Analog Devices; PartNumber: AD5570YRSZ-REEL7; # DAC Outputs: 1; Max V+: 16.5V; Op Pwr Diss: 150mW; Resolution (Bits): 16; Settling Time: 12µs; Single Supply: No; DatasheetVersion: Rev.C; PackageVersion: Mar-2005; PackageReference: RS-16; PackageDescription: 16-Lead Shrink Small Outline Package [SSOP]; Supplier 1: Digi-Key; Supplier Part Number 1: AD5570YRSZ-REEL7-ND; Supplier 2: Mouser; Supplier Part Number 2: 584-AD5570YRSZ-R7; Packing: Reel; RoHS: Y; Mounting Technology: Surface Mount; Code_JEDEC: MO-150-AC; ComponentLink1Description: Manufacturer URL; ComponentLink1URL: http://www.analog.com/en/index.html; ComponentLink2Description: Datasheet; ComponentLink2URL: http://www.analog.com/static/imported-files/data_sheets/AD5570.pdf; ComponentLink3Description: Package Specification; ComponentLink3URL: http://www.analog.com/static/imported-files/packages/31572257652246RS_16.pdf; ComponentLink4Description: Product URL; ComponentLink4URL: http://www.analog.com/en/digital-to-analog-converters/da-converters/ad5570/products/product.html
footprint RS-16_N (SOP, 16-Leads, Body 6.2x5.3mm, Pitch 0.65mm, IPC Medium Density)
footprint RS-16_L (SOP, 16-Leads, Body 6.2x5.3mm, Pitch 0.65mm, IPC High Density)
footprint RS-16_M (SOP, 16-Leads, Body 6.2x5.3mm, Pitch 0.65mm, IPC Low Density)
pins: 1 VSS (power) "Negative Analog Supply Voltage. -12 V +/- 5% to -15 V +/- 10% for specified performance", 2 VDD (power) "Positive Analog Supply Voltage. 12 V +/- 5% to 15 V +/- 10% for specified performance", 3 ~{CLR} (in) "Level Sensitive, Active Low Input. A falling edge of C\L\R\ resets VOUT to AGND. The contents of the registers are untouched.", 4 ~{LDAC} (in) "Active Low Control Input. Transfers the contents of the input register to the DAC register. L\D\A\C\ can be tied permanently low, enabling the outputs to be updated on the rising edge of S\Y\N\C\.", 5 ~{SYNC} (in) "Active Low Control Input. This is the frame synchronization signal for the data. When S\Y\N\C\ goes low, it powers on the SCLK and SDIN buffers and enables the input shift register. Data is transferred in on the falling (See Datasheet)", 6 SCLK (in) "Serial Clock Input. Data is clocked into the input register on the falling edge of the serial clock input. Data can be transferred at rates of up to 8 MHz.", 7 SDIN (in) "Serial Data Input. Data is clocked into the 16-bit register on the falling edge of the serial clock input.", 8 SDO (oc) "Serial Data Output. Can be used for daisy-chaining a number of devices together or for reading back the data in the shift register for diagnostic purposes. This is an open-drain output; it must be pulled to logic high with (See Datasheet)", 9 DGND (power) "Digital Ground. Ground reference for all digital circuitry.", 10 ~{PD} (in) "Active Low Control Input. Allows the DAC to be put into a power-down state.", 11 AGND (power) "Analog Ground. Ground reference for all analog circuitry.", 12 AGNDS (power) "Analog Ground Sense. This is normally tied to AGND.", 13 VOUT (out) "Analog Output Voltage.", 14 REFGND (power) "Reference Ground. Tie this pin to 0 V.", 15 REFIN (in) "Voltage Reference Input. This is internally buffered before being applied to the DAC. For bipolar +/-10 V output range, REFIN is 5 V.", 16 REFGND (power) "Reference Ground. Tie this pin to 0 V."

## AD5582YRVZ
designator U?
Quad 12-Bit Voltage Output Digital-to-Analog Converter with Parallel Interface, -40 to +125 degC, RV-48, Pb-Free, Tube; Generic Part Number: AD5582; Manufacturer: Analog Devices; PartNumber: AD5582YRVZ; # DAC Outputs: 4; Max V+: 16.5V; Op Pwr Diss: 52.5mW; Resolution (Bits): 12; Settling Time: 5µs; Single Supply: Yes; DatasheetVersion: Rev.A; PackageVersion: Mar-2005; PackageReference: RV-48; PackageDescription: 48-Lead Thin Shrink Small Outline Package [TSSOP]; Supplier 1: Digi-Key; Supplier Part Number 1: AD5582YRVZ-ND; Supplier 2: Farnell; Supplier Part Number 2: 1581902; Supplier 3: Newark; Supplier Part Number 3: 35K4065; Supplier 4: Mouser; Supplier Part Number 4: 584-AD5582YRVZ; Packing: Tube; RoHS: Y; Mounting Technology: Surface Mount; Code_JEDEC: MO-153-ED; ComponentLink1Description: Manufacturer URL; ComponentLink1URL: http://www.analog.com/en/index.html; ComponentLink2Description: Datasheet; ComponentLink2URL: http://www.analog.com/static/imported-files/data_sheets/AD5582_5583.pdf; ComponentLink3Description: Package Specification; ComponentLink3URL: http://www.analog.com/static/imported-files/packages/59272155RV_48.pdf; ComponentLink4Description: Product URL; ComponentLink4URL: http://www.analog.com/en/digital-to-analog-converters/da-converters/ad5582/products/product.html
footprint RV-48_N (TSSOP, 48-Leads, Body 12.5x6.1mm, Pitch 0.5mm, IPC Medium Density)
footprint RV-48_L (TSSOP, 48-Leads, Body 12.5x6.1mm, Pitch 0.5mm, IPC High Density)
footprint RV-48_M (TSSOP, 48-Leads, Body 12.5x6.1mm, Pitch 0.5mm, IPC Low Density)
pins: 1 AGND1 (power) "Analog Ground for DAC A and B", 2 VOB (out) "DAC B Output", 3 VDD1 (power) "Positive Power Supply for DAC A and B", 4 VSS1 (power) "Negative Power Supply for DAC A and B", 5 VOA (out) "DAC A Output", 6 NC "No Connect", 7 VREFLB (in) "DAC B Voltage Reference Low Terminal", 8 VREFHB (in) "DAC B Voltage Reference High Terminal", 9 VREFHA (in) "DAC A Voltage Reference High Terminal", 10 VREFLA (in) "DAC A Voltage Reference Low Terminal", 11 R1 "R1 Terminal (for Negative Reference)", 12 RCT "Center Tap Terminal (for Negative Reference)", 13 R2 "R2 Terminal (for Negative Reference)", 14 DVDD (power) "Power Supply for Digital Circuits", 15 ~{LDAC} (in) "DAC Register Load, Active Low Level Sensitive", 16 ~{RS} (in) "Reset Strobe", 17 MSB (in) "MSB = 0, Reset to 000H. MSB = 1, Reset to 800H.", 18 DB0 (in) "Data Bit 0", 19 DB1 (in) "Data Bit 1", 20 DB2 (in) "Data Bit 2", 21 DB3 (in) "Data Bit 3", 22 DGND1 (power) "Digital Ground 1", 23 DB4 (in) "Data Bit 4", 24 DB5 (in) "Data Bit 5", 25 DB6 (in) "Data Bit 6", 26 DB7 (in) "Data Bit 7", 27 DGND2 (power) "Digital Ground 2", 28 DB8 (in) "Data Bit 8", 29 DB9 (in) "Data Bit 9", 30 DB10 (in) "Data Bit 10", 31 DB11 (in) "Data Bit 11", 32 A0 (in) "Address Input 0", 33 A1 (in) "Address Input 1", 34 ~{CS} (in) "Chip Select, Active Low", 35 R/~{W} (in) "Read/Write Mode Select", 36 DGND3 (power) "Digital Ground 3", 37 VSS3 (power) "Negative Power Supply for Analog Switches", 38 VDD3 (power) "Positive Power Supply for Analog Switches", 39 VREFLD (in) "DAC D Voltage Reference Low Terminal", 40 VREFHD (in) "DAC D Voltage Reference High Terminal", 41 VREFHC (in) "DAC C Voltage Reference High Terminal", 42 VREFLC (in) "DAC C Voltage Reference Low Terminal", 43 NC "No Connect", 44 VOD (out) "DAC D Output", 45 VSS2 (power) "Negative Power Supply for DAC C and D", 46 VDD2 (power) "Positive Power Supply for DAC C and D", 47 VOC (out) "DAC C Output", 48 AGND2 (power) "Analog Ground for DAC C and D"

## AD5583YRVZ
designator U?
Quad 10-Bit Voltage Output Digital-to-Analog Converter with Parallel Interface, -40 to +125 degC, RV-48, Pb-Free, Tube; Generic Part Number: AD5583; Manufacturer: Analog Devices; PartNumber: AD5583YRVZ; # DAC Outputs: 4; Max V+: 16.5V; Op Pwr Diss: 52.5mW; Resolution (Bits): 10; Settling Time: 5µs; Single Supply: Yes; DatasheetVersion: Rev.A; PackageVersion: Mar-2005; PackageReference: RV-48; PackageDescription: 48-Lead Thin Shrink Small Outline Package [TSSOP]; Supplier 1: Digi-Key; Supplier Part Number 1: AD5583YRVZ-ND; Supplier 2: Newark; Supplier Part Number 2: 12M8569; Supplier 3: Mouser; Supplier Part Number 3: 584-AD5583YRVZ; Packing: Tube; RoHS: Y; Mounting Technology: Surface Mount; Code_JEDEC: MO-153-ED; ComponentLink1Description: Manufacturer URL; ComponentLink1URL: http://www.analog.com/en/index.html; ComponentLink2Description: Datasheet; ComponentLink2URL: http://www.analog.com/static/imported-files/data_sheets/AD5582_5583.pdf; ComponentLink3Description: Package Specification; ComponentLink3URL: http://www.analog.com/static/imported-files/packages/59272155RV_48.pdf; ComponentLink4Description: Product URL; ComponentLink4URL: http://www.analog.com/en/digital-to-analog-converters/da-converters/ad5583/products/product.html
footprint RV-48_N (TSSOP, 48-Leads, Body 12.5x6.1mm, Pitch 0.5mm, IPC Medium Density)
footprint RV-48_L (TSSOP, 48-Leads, Body 12.5x6.1mm, Pitch 0.5mm, IPC High Density)
footprint RV-48_M (TSSOP, 48-Leads, Body 12.5x6.1mm, Pitch 0.5mm, IPC Low Density)
pins: 1 AGND1 (power) "Analog Ground for DAC A and B", 2 VOB (out) "DAC B Output", 3 VDD1 (power) "Positive Power Supply for DAC A and B", 4 VSS1 (power) "Negative Power Supply for DAC A and B", 5 VOA (out) "DAC A Output", 6 NC "No Connect (Do Not Connect Anything other than Dummy Pad)", 7 VREFLB (in) "DAC B Voltage Reference Low Terminal", 8 VREFHB (in) "DAC B Voltage Reference High Terminal", 9 VREFHA (in) "DAC A Voltage Reference High Terminal", 10 VREFLA (in) "DAC A Voltage Reference Low Terminal", 11 R1 "R1 Terminal (for Negative Reference)", 12 RCT "Center Tap Terminal (for Negative Reference)", 13 R2 "R2 Terminal (for Negative Reference)", 14 DVDD (power) "Power Supply for Digital Circuits", 15 ~{LDAC} "DAC Register Load, Active Low Level Sensitive", 16 ~{RS} "Reset Strobe", 17 MSB (in) "MSB = 0, Reset to 000H. MSB = 1, Reset to 200H.", 18 NC "No Connect (Do Not Connect Anything other than Dummy Pad)", 19 NC "No Connect (Do Not Connect Anything other than Dummy Pad)", 20 DB0 (io) "Data Bit 0", 21 DB1 (io) "Data Bit 1", 22 DGND1 (power) "Digital Ground 1", 23 DB2 (io) "Data Bit 2", 24 DB3 (io) "Data Bit 3", 25 DB4 (io) "Data Bit 4", 26 DB5 (io) "Data Bit 5", 27 DGND2 (power) "Digital Ground 2", 28 DB6 (io) "Data Bit 6", 29 DB7 (io) "Data Bit 7", 30 DB8 (io) "Data Bit 8", 31 DB9 (io) "Data Bit 9", 32 A0 (in) "Address Input 0", 33 A1 (in) "Address Input 1", 34 ~{CS} (in) "Chip Select, Active Low", 35 R/~{W} (in) "Read/Write Mode Select", 36 DGND3 (power) "Digital Ground 3", 37 VSS3 (power) "Negative Power Supply for Analog Switches", 38 VDD3 (power) "Positive Power Supply for Analog Switches", 39 VREFLD (in) "DAC D Voltage Reference Low Terminal", 40 VREFHD (in) "DAC D Voltage Reference High Terminal", 41 VREFHC (in) "DAC C Voltage Reference High Terminal", 42 VREFLC (in) "DAC C Voltage Reference Low Terminal", 43 NC "No Connect (Do Not Connect Anything other than Dummy Pad)", 44 VOD (out) "DAC D Output", 45 VSS2 (power) "Negative Power Supply for DAC C and D", 46 VDD2 (power) "Positive Power Supply for DAC C and D", 47 VOC (out) "DAC C Output", 48 AGND2 (power) "Analog Ground for DAC C and D"

## AD5583YRVZ-REEL
designator U?
Quad 10-Bit Voltage Output Digital-to-Analog Converter with Parallel Interface, -40 to +125 degC, RV-48, Pb-Free, Reel; Generic Part Number: AD5583; Manufacturer: Analog Devices; PartNumber: AD5583YRVZ-REEL; # DAC Outputs: 4; Max V+: 16.5V; Op Pwr Diss: 52.5mW; Resolution (Bits): 10; Settling Time: 5µs; Single Supply: Yes; DatasheetVersion: Rev.A; PackageVersion: Mar-2005; PackageReference: RV-48; PackageDescription: 48-Lead Thin Shrink Small Outline Package [TSSOP]; Supplier 1: Digi-Key; Supplier Part Number 1: AD5583YRVZ-REEL-ND; Supplier 2: Mouser; Supplier Part Number 2: 584-AD5583YRVZ-R; Packing: Reel; RoHS: Y; Mounting Technology: Surface Mount; Code_JEDEC: MO-153-ED; ComponentLink1Description: Manufacturer URL; ComponentLink1URL: http://www.analog.com/en/index.html; ComponentLink2Description: Datasheet; ComponentLink2URL: http://www.analog.com/static/imported-files/data_sheets/AD5582_5583.pdf; ComponentLink3Description: Package Specification; ComponentLink3URL: http://www.analog.com/static/imported-files/packages/59272155RV_48.pdf; ComponentLink4Description: Product URL; ComponentLink4URL: http://www.analog.com/en/digital-to-analog-converters/da-converters/ad5583/products/product.html
footprint RV-48_N (TSSOP, 48-Leads, Body 12.5x6.1mm, Pitch 0.5mm, IPC Medium Density)
footprint RV-48_L (TSSOP, 48-Leads, Body 12.5x6.1mm, Pitch 0.5mm, IPC High Density)
footprint RV-48_M (TSSOP, 48-Leads, Body 12.5x6.1mm, Pitch 0.5mm, IPC Low Density)
pins: 1 AGND1 (power) "Analog Ground for DAC A and B", 2 VOB (out) "DAC B Output", 3 VDD1 (power) "Positive Power Supply for DAC A and B", 4 VSS1 (power) "Negative Power Supply for DAC A and B", 5 VOA (out) "DAC A Output", 6 NC "No Connect (Do Not Connect Anything other than Dummy Pad)", 7 VREFLB (in) "DAC B Voltage Reference Low Terminal", 8 VREFHB (in) "DAC B Voltage Reference High Terminal", 9 VREFHA (in) "DAC A Voltage Reference High Terminal", 10 VREFLA (in) "DAC A Voltage Reference Low Terminal", 11 R1 "R1 Terminal (for Negative Reference)", 12 RCT "Center Tap Terminal (for Negative Reference)", 13 R2 "R2 Terminal (for Negative Reference)", 14 DVDD (power) "Power Supply for Digital Circuits", 15 ~{LDAC} "DAC Register Load, Active Low Level Sensitive", 16 ~{RS} "Reset Strobe", 17 MSB (in) "MSB = 0, Reset to 000H. MSB = 1, Reset to 200H.", 18 NC "No Connect (Do Not Connect Anything other than Dummy Pad)", 19 NC "No Connect (Do Not Connect Anything other than Dummy Pad)", 20 DB0 (io) "Data Bit 0", 21 DB1 (io) "Data Bit 1", 22 DGND1 (power) "Digital Ground 1", 23 DB2 (io) "Data Bit 2", 24 DB3 (io) "Data Bit 3", 25 DB4 (io) "Data Bit 4", 26 DB5 (io) "Data Bit 5", 27 DGND2 (power) "Digital Ground 2", 28 DB6 (io) "Data Bit 6", 29 DB7 (io) "Data Bit 7", 30 DB8 (io) "Data Bit 8", 31 DB9 (io) "Data Bit 9", 32 A0 (in) "Address Input 0", 33 A1 (in) "Address Input 1", 34 ~{CS} (in) "Chip Select, Active Low", 35 R/~{W} (in) "Read/Write Mode Select", 36 DGND3 (power) "Digital Ground 3", 37 VSS3 (power) "Negative Power Supply for Analog Switches", 38 VDD3 (power) "Positive Power Supply for Analog Switches", 39 VREFLD (in) "DAC D Voltage Reference Low Terminal", 40 VREFHD (in) "DAC D Voltage Reference High Terminal", 41 VREFHC (in) "DAC C Voltage Reference High Terminal", 42 VREFLC (in) "DAC C Voltage Reference Low Terminal", 43 NC "No Connect (Do Not Connect Anything other than Dummy Pad)", 44 VOD (out) "DAC D Output", 45 VSS2 (power) "Negative Power Supply for DAC C and D", 46 VDD2 (power) "Positive Power Supply for DAC C and D", 47 VOC (out) "DAC C Output", 48 AGND2 (power) "Analog Ground for DAC C and D"